# EAGLE library part PARTICLE-DEVICES-BORON (library Carrier Board)
Particle Boron Device for Carrier Board Placement
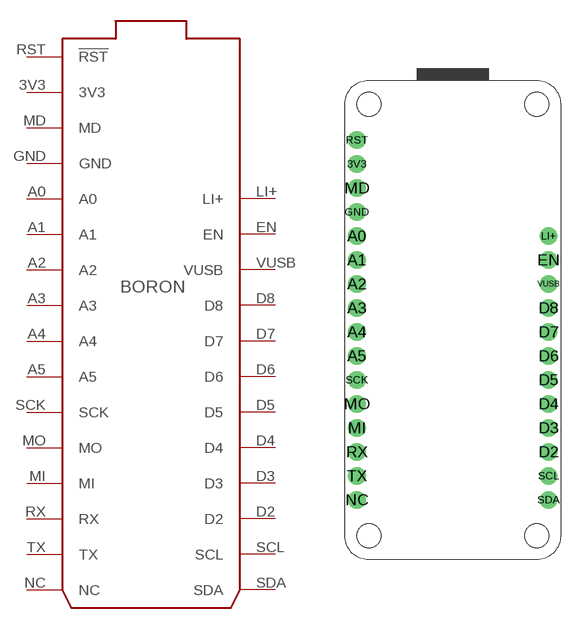
[diagram p0: symbol with the pads of PARTICLE-DEVICES_BORON; footprint PARTICLE-DEVICES_BORON]

Designator prefix P

## PARTICLE-DEVICES-BORON  [PARTICLE-DEVICES_BORON]
3V3  3V3
A0  A0
A1  A1
A2  A2
A3  A3
A4  A4
A5  A5
D2  D2
D3  D3
D4  D4
D5  D5
D6  D6
D7  D7
D8  D8
EN  EN
GND  GND
LI+  LI+
MD  MD
MI  MI
MO  MO
NC  NC
RST  !RST
RX  RX
SCK  SCK
SCL  SCL
SDA  SDA
TX  TX
VUSB  VUSB

## Footprint PARTICLE-DEVICES_BORON (pad centres in mm)
drill 1.016 pad 1.88: 3V3 1.27,41.91; A0 1.27,34.29; A1 1.27,31.75; A2 1.27,29.21; A3 1.27,26.67; A4 1.27,24.13; A5 1.27,21.59; D2 21.59,11.43; D3 21.59,13.97; D4 21.59,16.51; D5 21.59,19.05; D6 21.59,21.59; D7 21.59,24.13; D8 21.59,26.67; EN 21.59,31.75; GND 1.27,36.83; LI+ 21.59,34.29; MD 1.27,39.37; MI 1.27,13.97; MO 1.27,16.51; NC 1.27,6.35; RST 1.27,44.45; RX 1.27,11.43; SCK 1.27,19.05; SCL 21.59,8.89; SDA 21.59,6.35; TX 1.27,8.89; VUSB 21.59,29.21
hole 2.54 at 2.54,2.54
hole 2.54 at 20.32,2.54
hole 2.54 at 20.32,48.26
hole 2.54 at 2.54,48.26